# Altium footprint library via_propagation_delay_matrix.PcbLib: 1 footprints
Each footprint in its own frame and in the unit in brackets; x right, y up, seen from the top. Pads: shape width x height; smd on the part's side, far side on the other; paste and mask are expansions set on the pad; w line width, h text height; cw(c..) or ccw(c..) is an arc to the next point about the centre after c.
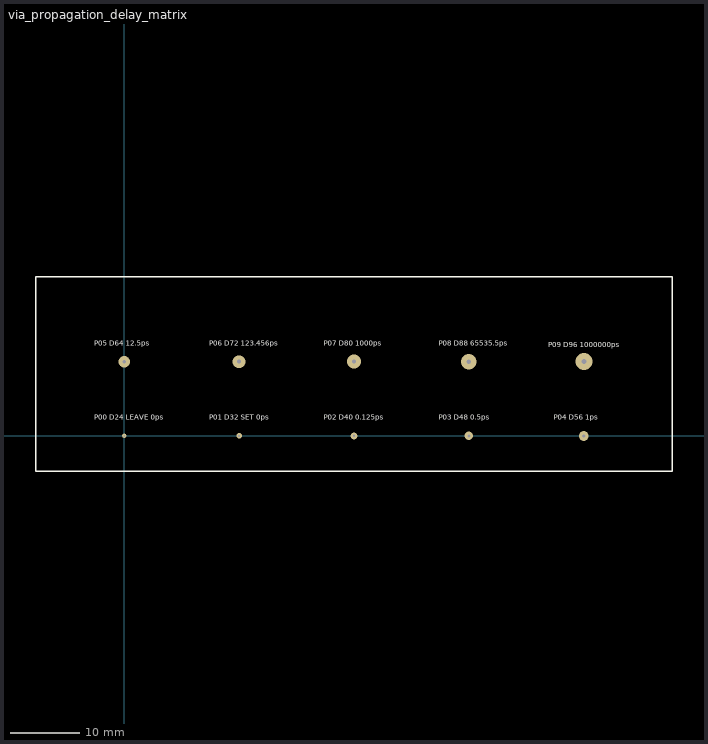
[diagram p0: the footprint, top view; thin cyan lines are the x and y axes]

## via_propagation_delay_matrix [mm]
via 66.04,10.668 diameter 2.438 hole 0.711
via 49.53,10.668 diameter 2.235 hole 0.66
via 33.02,10.668 diameter 2.032 hole 0.61
via 16.51,10.668 diameter 1.829 hole 0.559
via 0,10.668 diameter 1.626 hole 0.508
via 66.04,0 diameter 1.422 hole 0.457
via 49.53,0 diameter 1.219 hole 0.406
via 33.02,0 diameter 1.016 hole 0.356
via 16.51,0 diameter 0.813 hole 0.305
via 0,0 diameter 0.61 hole 0.254
Top Overlay:
  lines w0.254: -12.7,-5.08 78.74,-5.08 78.74,22.86 -12.7,22.86 -12.7,-5.08
  text "P09 D96 1000000ps" at 60.96,12.7 h0.71
  text "P08 D88 65535.5ps" at 45.212,12.954 h0.71
  text "P07 D80 1000ps" at 28.702,12.954 h0.71
  text "P06 D72 123.456ps" at 12.192,12.954 h0.71
  text "P05 D64 12.5ps" at -4.318,12.954 h0.71
  text "P04 D56 1ps" at 61.722,2.286 h0.71
  text "P03 D48 0.5ps" at 45.212,2.286 h0.71
  text "P02 D40 0.125ps" at 28.702,2.286 h0.71
  text "P01 D32 SET 0ps" at 12.192,2.286 h0.71
  text "P00 D24 LEAVE 0ps" at -4.318,2.286 h0.71